# Altium footprint library PcbLib1 - Copy.PcbLib: 13 footprints
Each footprint in its own frame and in the unit in brackets; x right, y up, seen from the top. Pads: shape width x height; smd on the part's side, far side on the other; paste and mask are expansions set on the pad; w line width, h text height; cw(c..) or ccw(c..) is an arc to the next point about the centre after c.
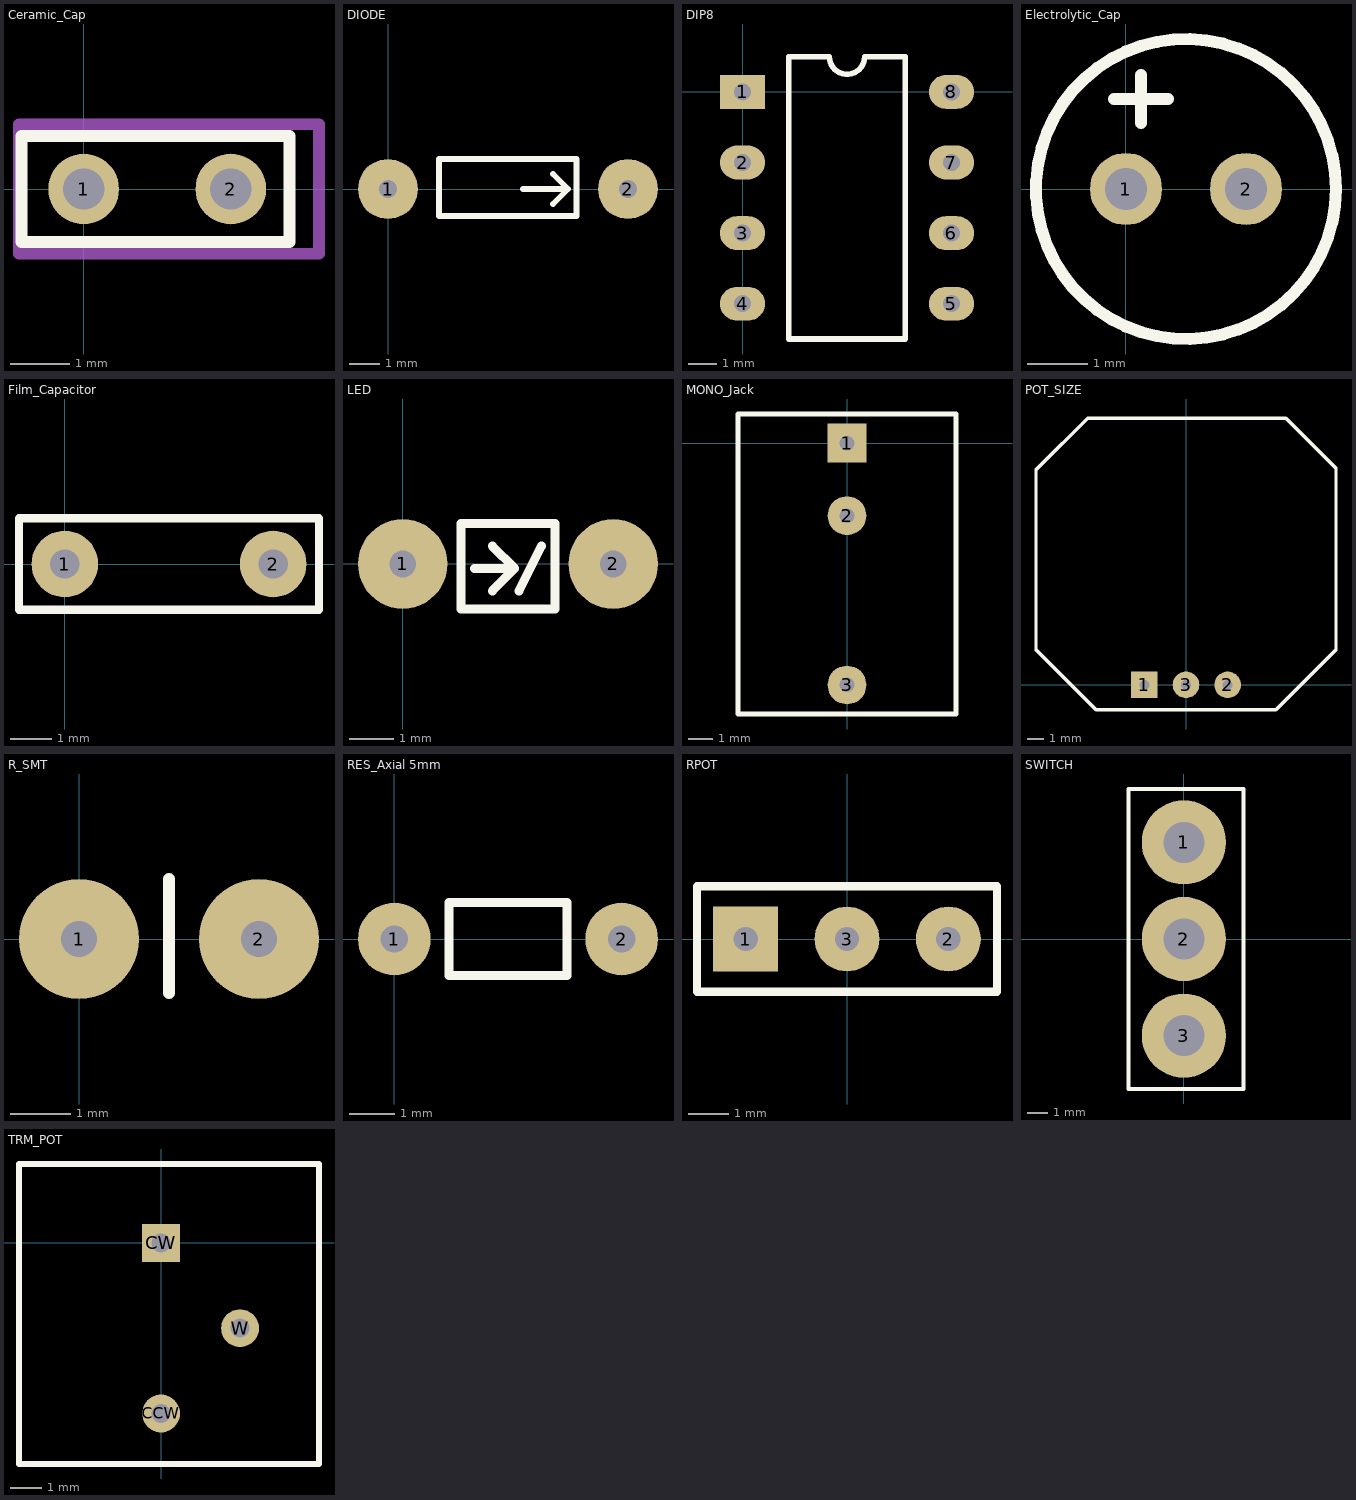
[diagram p0: the footprints below, top view; thin cyan lines are the x and y axes]

## Ceramic_Cap [mm]
pads (2):
  round 1.2 hole 0.7: 1(0,0) 2(2.5,0)
Top Overlay:
  lines w0.2: -1.057,-0.9 1.8,-0.9 3.5,-0.9 3.5,0.9 2.5,0.9 -1.057,0.9 -1.057,-0.9
Assembly Notes:
  lines w0.2: -1.1,-1.1 1.6,-1.1 4,-1.1 4,1.1 3.5,1.1 2.3,1.1 -1.057,1.1 -1.1,1.1 -1.1,-1.1
  text "'.Designator'" at 0.1,-0.367 h0.7

## DIODE [mm]
pads (2):
  round 2 hole 0.6: 1(0,0) 2(8,0)
Top Overlay:
  lines w0.2: 4.5,0 6,0 ; 5.5,-0.5 6,0 ; 5.5,0.5 6,0 ; 1.7,-0.9 6.275,-0.9 6.275,1 1.7,1 1.7,-0.9
Assembly Notes:
  text "'.Designator'" at 3.1,-0.167 h0.7

## DIP8 [mm]
pads (8):
  rect 1.6x1.2 hole 0.6: 1(0,0)
  oval 1.6x1.2 hole 0.6: 2(0,-2.5) 3(0,-5) 4(0,-7.5) 5(7.4,-7.5) 6(7.4,-5) 7(7.4,-2.5) 8(7.4,0)
Top Overlay:
  lines w0.2: 1.635,-8.75 1.635,1.25 3.075,1.25 ccw(c3.7,1.25) 4.325,1.25 5.765,1.25 5.765,-8.75 1.635,-8.75
Assembly Notes:
  text "'.Designator'" at 3.967,-7.7 h0.7

## Electrolytic_Cap [mm]
pads (2):
  round 1.2 hole 0.7: 1(0,0) 2(2,0)
Top Overlay:
  circle w0.2: c1,0 r2.5
  lines w0.2: -0.2,1.5 0.7,1.5 ; 0.25,1.1 0.25,1.9
Assembly Notes:
  text "'.Designator'" at 1.167,-1.8 h0.7

## Film_Capacitor [mm]
pads (2):
  round 1.6 / inner round 1.6 / far side round 1.2 hole 0.7: 1(0,0) 2(5,0)
Top Overlay:
  lines w0.2: -1.1,-1.1 6.1,-1.1 6.1,1.1 -1.1,1.1 -1.1,-1.1
Assembly Notes:
  text "'.Designator'" at 1.2,-0.367 h0.7

## LED [mm]
pads (2):
  round 2 hole 0.6: 1(0,0) 2(4.7,0)
Top Overlay:
  lines w0.2: 1.6,-0.1 2.5,-0.1 ; 2,-0.6 2.5,-0.1 ; 2,0.4 2.5,-0.1 ; 2.6,-0.6 3.1,0.4 ; 1.3,-1 1.3,0.9 3.4,0.9 3.4,-1 1.3,-1
Assembly Notes:
  text "'.Designator'" at 1.5,-0.217 h0.7

## MONO_Jack [mm]
pads (3):
  rect 1.6x1.6 hole 0.6: 1(0,0)
  round 1.6 hole 0.6: 2(0,-3) 3(0,-10)
Top Overlay:
  lines w0.2: -4.5,-11.2 -4.5,1.2 4.5,1.2 4.5,-11.2 -4.5,-11.2
Assembly Notes:
  text "'.Designator'" at -0.4,-6.167 h0.7

## POT_SIZE [mm]
pads (3):
  rect 1.6x1.6 hole 0.6: 1(-2.5,0)
  round 1.6 hole 0.6: 2(2.5,0) 3(0,0)
Top Overlay:
  lines w0.2: -9,2.1 -9,12.9 -8.85,13.05 -5.9,16 6,16 9,13 9,2.1 5.4,-1.5 -5.4,-1.5 -9,2.1

## R_SMT [mm]
pads (2):
  round 2 hole 0.6: 1(0,0) 2(3,0)
Top Overlay:
  lines w0.2: 1.5,-0.9 1.5,1
Assembly Notes:
  text "'.Designator'" at 1.667,-0.4 h0.7

## RES_Axial 5mm [mm]
pads (2):
  round 1.6 hole 0.6: 1(0,0) 2(5,0)
Top Overlay:
  lines w0.2: 1.2,-0.8 1.2,0.8 3.8,0.8 3.8,-0.175 3.8,-0.8 1.2,-0.8
Assembly Notes:
  text "'.Designator'" at 1.5,-0.167 h0.7

## RPOT [mm]
pads (3):
  rect 1.6x1.6 hole 0.6: 1(-2.5,0)
  round 1.6 hole 0.6: 2(2.5,0) 3(0,0)
Top Overlay:
  lines w0.2: -3.7,-1.3 3.7,-1.3 3.7,1.3 -3.7,1.3 -3.7,-1.3
Assembly Notes:
  text "'.Designator'" at -1.2,-0.267 h0.7

## SWITCH [mm]
pads (3):
  round 4.1 / inner round 4 / far side round 4.1 hole 2: 1(0,4.7) 2(0,0) 3(0,-4.7)
Top Overlay:
  lines w0.2: -2.7,-7.3 -2.7,7.3 2.9,7.3 2.9,-7.3 -2.7,-7.3

## TRM_POT [mm]
pads (3):
  round 1.2 hole 0.6: CCW(0,-5.4) W(2.5,-2.7)
  rect 1.2x1.2 hole 0.6: CW(0,0)
Top Overlay:
  lines w0.2: -4.5,-7 5,-7 5,2.5 -4.5,2.5 -4.5,-7
Assembly Notes:
  text "'.Designator'" at -3.2,-2.667 h0.7